# Altium schematic symbol library IRFH7084.SchLib: 1 symbol
Pins are listed as number, name and electrical type; pins without a type are passive.

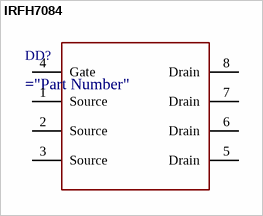
[diagram p0: symbol IRFH7084]

## IRFH7084
designator DD?
n mosfet 40 V, 100 A
pins: 1 Source, 2 Source, 3 Source, 4 Gate, 5 Drain, 6 Drain, 7 Drain, 8 Drain